# Altium schematic symbol library GENERIC_PCB.SchLib: 1 symbol
Pins are listed as number, name and electrical type; pins without a type are passive.

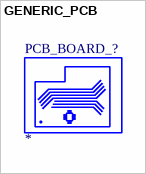
[diagram p0: symbol GENERIC_PCB]

## GENERIC_PCB
designator PCB_BOARD_?  (mechanical)